# Altium schematic symbol library Schlib1.SchLib: 4 symbols
Pins are listed as number, name and electrical type; pins without a type are passive.

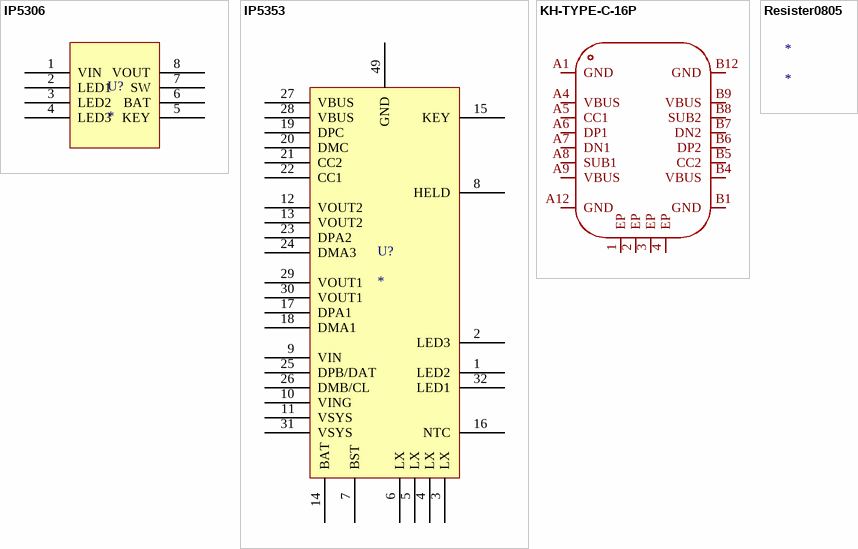
[diagram p0: symbols IP5306 to Resister0805]

## IP5306
designator U?
IC
pins: 1 VIN, 2 LED1, 3 LED2, 4 LED3, 5 KEY, 6 BAT, 7 SW, 8 VOUT

## IP5353
designator U?
IC
pins: 1 LED2, 2 LED3, 3 LX, 4 LX, 5 LX, 6 LX, 7 BST, 8 HELD, 9 VIN, 10 VING, 11 VSYS, 12 VOUT2, 13 VOUT2, 14 BAT, 15 KEY, 16 NTC, 17 DPA1, 18 DMA1, 19 DPC, 20 DMC, 21 CC2, 22 CC1, 23 DPA2, 24 DMA3, 25 DPB/DAT, 26 DMB/CL, 27 VBUS, 28 VBUS, 29 VOUT1, 30 VOUT1, 31 VSYS, 32 LED1, 49 GND

## KH-TYPE-C-16P
designator USB??  (value not drawn)
Manufacturer: kinghelm(金航标); Add into BOM: yes; Connector Type: Type-C; Gender: 母; Number of Ports: 1; Number of Contacts: 16P; Current Rating - Power (Max): 3A; Symbol: KH-TYPE-C-16P; Device: KH-TYPE-C-16P; LCSC Part Name: Type-C 母 卧贴; Supplier Part: C709357; Manufacturer Part: KH-TYPE-C-16P; Supplier Footprint: SMD; JLCPCB Part Class: Extended Part; Datasheet: https://atta.szlcsc.com/upload/public/pdf/source/20200911/C709357_AA8DCEB38BB20E3035A7ED7AE7667837.pdf; Supplier: LCSC; Convert to PCB: yes; Standard: -; Mounting Style: 卧贴; Operating Temperature Range: -40℃~+85℃
footprint USB-C-SMD_KH-TYPE-C-16P
3D model USB-C-SMD_KH-TYPE-C-16P
pins: 1 EP, 2 EP, 3 EP, 4 EP, A1 GND, A4 VBUS, A5 CC1, A6 DP1, A7 DN1, A8 SUB1, A9 VBUS, A12 GND, B1 GND, B4 VBUS, B5 CC2, B6 DP2, B7 DN2, B8 SUB2, B9 VBUS, B12 GND

## Resister0805
designator *